# EAGLE library part LM386N (library dtoy-RF)
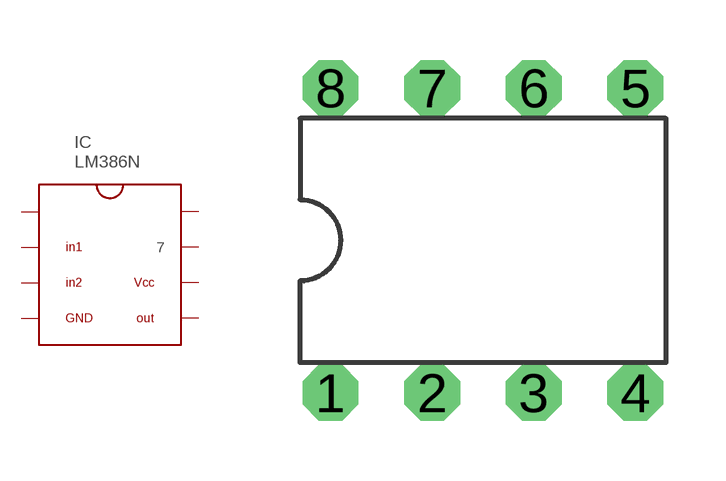
[diagram p6: symbol with the pads of DIL-08; footprint DIL-08]

Designator prefix IC

## LM386N  [DIL-08]
1  1  pas
2  2  pas
3  3  pas
4  4  pas
5  5  pas
6  6  pas
7  7  pas
8  8  pas

## Footprint DIL-08 (pad centres in mm)
drill 0.61 pad 1.397 octagon: 1 -3.81,-3.81; 2 -1.27,-3.81; 3 1.27,-3.81; 4 3.81,-3.81; 5 3.81,3.81; 6 1.27,3.81; 7 -1.27,3.81; 8 -3.81,3.81